# Altium footprint library LDR SOCKET.PcbLib: 1 footprints
Each footprint in its own frame and in the unit in brackets; x right, y up, seen from the top. Pads: shape width x height; smd on the part's side, far side on the other; paste and mask are expansions set on the pad; w line width, h text height; cw(c..) or ccw(c..) is an arc to the next point about the centre after c.
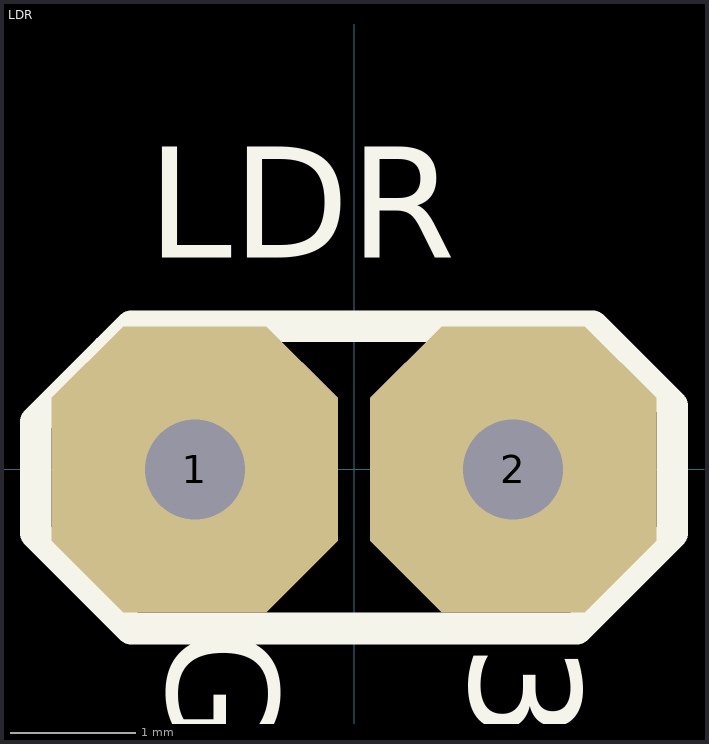
[diagram p0: the footprint, top view; thin cyan lines are the x and y axes]

## LDR [mil]
pads (2):
  oct 90x90 hole 31.5: 1(-50,0) 2(50,0)
Top Overlay:
  lines w10: -100,-20 -95,-25 -70,-50 70,-50 100,-20 100,20 75,45 -70,45 -77.5,37.5 -92.5,22.5 -100,15 -100,-20
  text "LDR" at -65,55 h60
  text "GND" at -70,-50 h60
  text "3V3" at 25,-55 h60